# Altium schematic symbol library DRV8332DKD.SchLib: 1 symbol
Pins are listed as number, name and electrical type; pins without a type are passive.

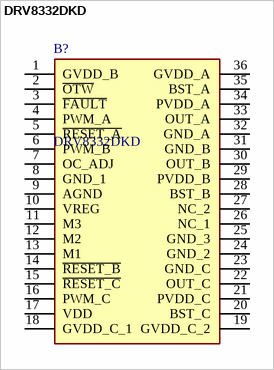
[diagram p0: symbol DRV8332DKD]

## DRV8332DKD
designator B?
13A Three Phase Brushless DC Motor Driver with Inrush Protection (PWM Ctrl); Manufacturer_Name: Texas Instruments; Geometry.Height: 3.6mm; Manufacturer_Part_Number: DRV8332DKD; Mouser Part Number: 595-DRV8332DKD; Mouser Price/Stock: https://www.mouser.co.uk/ProductDetail/Texas-Instruments/DRV8332DKD?qs=GI4%2FryNtbd3ox%252B47ZthFxg%3D%3D; Arrow Part Number: DRV8332DKD; Arrow Price/Stock: https://www.arrow.com/en/products/drv8332dkd/texas-instruments; Datasheet Link: http://www.ti.com/lit/gpn/drv8332
footprint SOP65P1420X360-36N
pins: 1 GVDD_B, 2 ~{OTW}, 3 ~{FAULT}, 4 PWM_A, 5 ~{RESET_A}, 6 PWM_B, 7 OC_ADJ, 8 GND_1, 9 AGND, 10 VREG, 11 M3, 12 M2, 13 M1, 14 ~{RESET_B}, 15 ~{RESET_C}, 16 PWM_C, 17 VDD, 18 GVDD_C_1, 19 GVDD_C_2, 20 BST_C, 21 PVDD_C, 22 OUT_C, 23 GND_C, 24 GND_2, 25 GND_3, 26 NC_1, 27 NC_2, 28 BST_B, 29 PVDD_B, 30 OUT_B, 31 GND_B, 32 GND_A, 33 OUT_A, 34 PVDD_A, 35 BST_A, 36 GVDD_A